# EAGLE library part MAX756 (library marius)
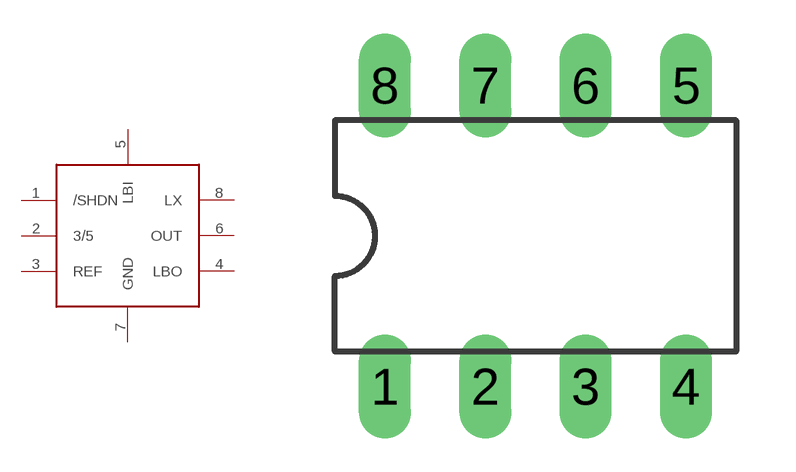
[diagram p1: symbol with the pads of DIP8; footprint DIP8]

Designator prefix -

## MAX756  [DIP8]
1  /SHDN
2  3/5
3  REF
4  LBO
5  LBI
6  OUT
7  GND
8  LX

## Footprint DIP8 (pad centres in mm)
drill 0.813 long: 1 -3.81,-3.81; 2 -1.27,-3.81; 3 1.27,-3.81; 4 3.81,-3.81; 5 3.81,3.81; 6 1.27,3.81; 7 -1.27,3.81; 8 -3.81,3.81